# EAGLE library part ATSAMR21B18-MZ210PA (library atmel-zll)
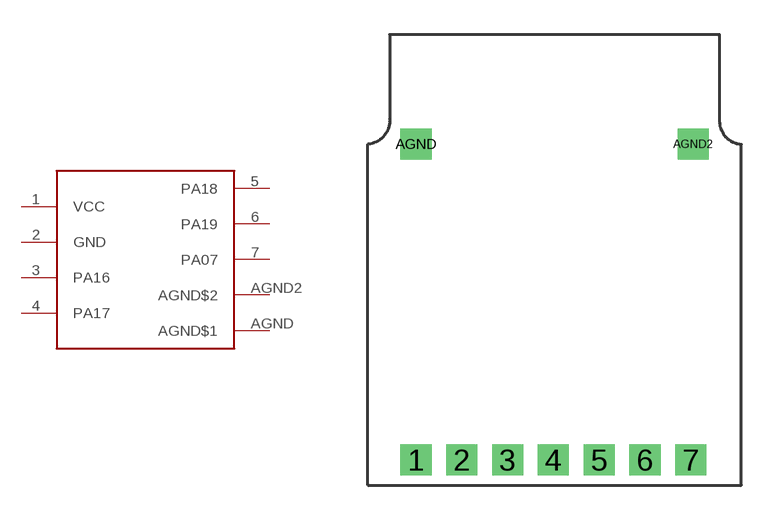
[diagram p0: symbol with the pads of ATSAMR21B18-MZ210PA; footprint ATSAMR21B18-MZ210PA]

Designator prefix -

## ATSAMR21B18-MZ210PA  [ATSAMR21B18-MZ210PA]
1  VCC
2  GND
3  PA16
4  PA17
5  PA18
6  PA19
7  PA07
AGND  AGND$1
AGND2  AGND$2

## Footprint ATSAMR21B18-MZ210PA (pad centres in mm)
drill 0.85 square: 1 2.1,1.1; 2 4.1,1.1; 3 6.1,1.1; 4 8.1,1.1; 5 10.1,1.1; 6 12.1,1.1; 7 14.1,1.1; AGND 2.1,14.9; AGND2 14.2,14.9